# Altium footprint library LCD_Dev_PCB.PcbLib: 19 footprints (part 2 of 2)
Each footprint in its own frame and in the unit in brackets; x right, y up, seen from the top. Pads: shape width x height; smd on the part's side, far side on the other; paste and mask are expansions set on the pad; w line width, h text height; cw(c..) or ccw(c..) is an arc to the next point about the centre after c.
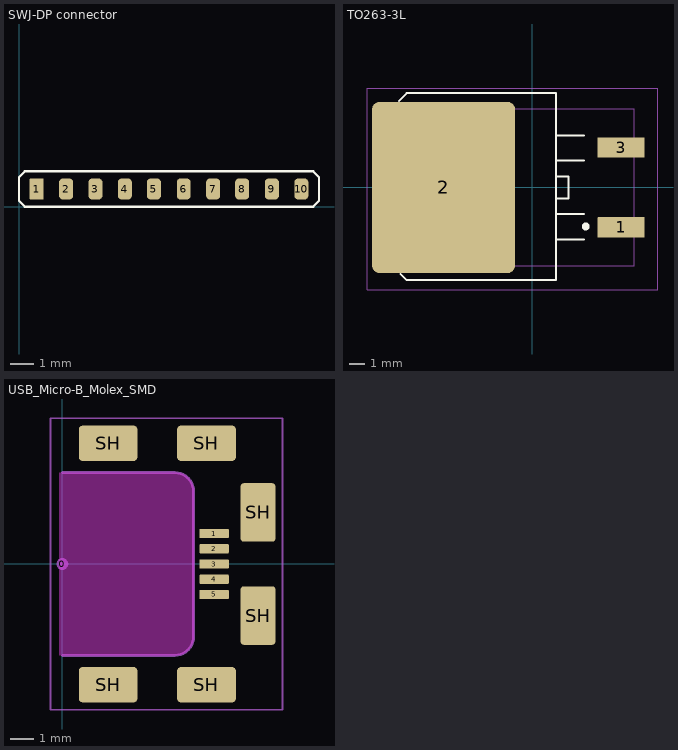
[diagram p1: the footprints below, top view; thin cyan lines are the x and y axes]

## SWJ-DP connector [mm]
pads (10):
  rrect8% 0.6x0.9 smd: 1(0.762,0.762)
  rrect50% 0.6x0.9 smd: 2(2.032,0.762) 3(3.302,0.762) 4(4.572,0.762) 5(5.826,0.762) 6(7.112,0.762) 7(8.382,0.762) 8(9.636,0.762) 9(10.922,0.762) 10(12.192,0.762)
Top Overlay:
  lines w0.1: 0,0.254 0,1.27 0.254,1.524 12.7,1.524 12.954,1.27 12.954,0.254 12.7,0 0.254,0 0,0.254

## TO263-3L [mm]
pads (3):
  rrect5% 3x1.3 smd: 1(5.651,-2.54) 3(5.651,2.54)
  rrect10% 9.1x10.9 smd: 2(-5.651,0)
Top Overlay:
  circle w0.25: c3.398,-2.485 r0.125
  lines w0.127: -8.5,5.5 -8,6 1.5,6 1.5,-5.9 -8,-5.9 -8.4,-5.5 ; 3.3,-3.3 1.5,-3.3 1.5,-1.7 3.3,-1.7 ; 3.3,1.7 1.5,1.7 1.5,3.3 3.3,3.3 ; 1.5,-0.7 1.5,0.7 2.3,0.7 2.3,-0.7 1.5,-0.7
Mechanical 13:
  lines w0.076: -9.18,-5 6.49,-5 6.49,5 -9.18,5 -9.18,-5
Mechanical 15:
  lines w0.076: -10.5,-6.5 -10.5,6.3 8,6.3 8,-6.5 -10.5,-6.5
3D body "SW3dPS-TO263-3S.STEP": height 4.81, standoff 0.01, extent -9.18,-5 6.49,5

## USB_Micro-B_Molex_SMD [mm]
pads (12):
  round 0.508 on Mech15: 0(0,0)
  rrect20% 1.25x0.4 smd: 1(6.475,1.3) 2(6.475,0.65) 3(6.475,0) 4(6.475,-0.65) 5(6.475,-1.3)
  rrect20% 2.5x1.5 smd: SH(1.95,-5.15) SH(1.95,5.15) SH(6.15,-5.15) SH(6.15,5.15)
  rrect20% 1.5x2.5 smd: SH(8.35,-2.2) SH(8.35,2.2)
Top Solder:
  rectangle: 5.842,-1.27 7.112,1.27
Keep-Out Layer:
  board cut-out: -0.127,3.9 4.8,3.9 4.879,3.9 5.033,3.869 5.179,3.809 5.31,3.721 5.421,3.61 5.509,3.479 5.569,3.333 5.6,3.179 5.6,3.1 5.6,-3.1 5.6,-3.179 5.569,-3.333 5.509,-3.479 5.421,-3.61 5.31,-3.721 5.179,-3.809 5.033,-3.869 4.879,-3.9 4.8,-3.9 -0.127,-3.9
Mechanical 13:
  lines w0.127: 0,-3.9 4.8,-3.9 ccw(c4.8,-3.1) 5.6,-3.1 5.6,3.1 ccw(c4.8,3.1) 4.8,3.9 0,3.9
Mechanical 15:
  lines w0.076: -0.5,-6.223 -0.5,6.223 9.398,6.223 9.398,-6.223 -0.5,-6.223
3D body "Micro USB B Receptacle Middle Mount.STEP": height 1.43, standoff -1.52, extent -0.43,-5.5 8.7,5.5